# Altium footprint library Others.PcbLib: 19 footprints (part 2 of 2)
Each footprint in its own frame and in the unit in brackets; x right, y up, seen from the top. Pads: shape width x height; smd on the part's side, far side on the other; paste and mask are expansions set on the pad; w line width, h text height; cw(c..) or ccw(c..) is an arc to the next point about the centre after c.
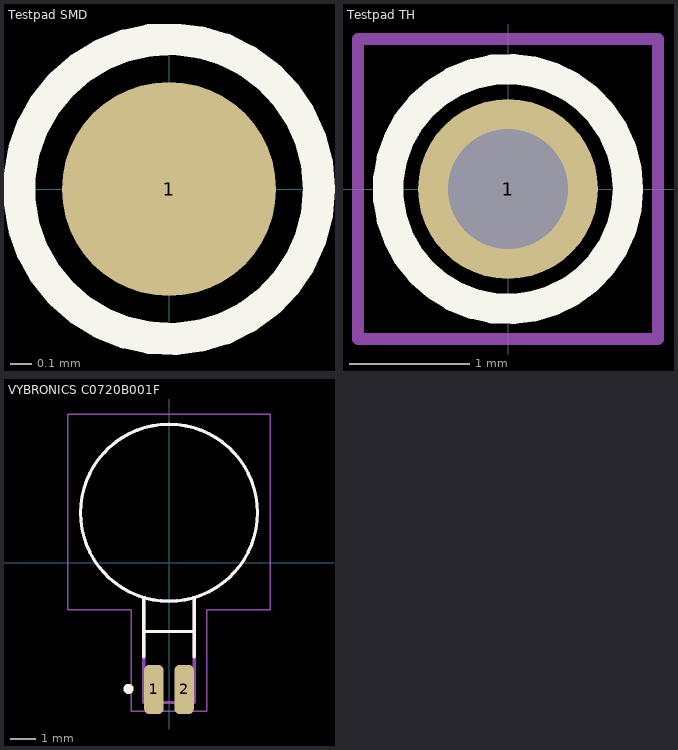
[diagram p1: the footprints below, top view; thin cyan lines are the x and y axes]

## Testpad SMD [mm]
pads (1):
  round 1 smd paste-5: 1(0,0)
Top Overlay:
  circle w0.15: c0,0 r0.7

## Testpad TH [mm]
pads (1):
  round 1.5 hole 1: 1(0,0)
Top Overlay:
  circle w0.254: c0,0 r1
Top Courtyard:
  lines w0.1: -1.25,-1.25 -1.25,1.25 1.25,1.25 1.25,-1.25 -1.25,-1.25

## VYBRONICS C0720B001F [mm] "Vibration Motor"
pads (2):
  rrect50% 0.76x1.94 smd: 1(-0.6,-5.02) 2(0.6,-5.02)
Top Overlay:
  circle w0.2: c-1.6,-5 r0.1
  circle w0.127: c0,1.97 r3.5
  lines w0.127: -1,-3.725 -1,-2.73 ; -1,-1.425 -1,-2.73 ; 1,-3.725 1,-2.73 ; 1,-1.425 1,-2.73 ; -1,-2.73 1,-2.73
Top Component Outline:
  circle w0.127: c0,1.97 r3.5
  lines w0.127: -1,-2.725 1,-2.725 1,-1.425 ; -1,-1.425 -1,-5.53 1,-5.53 1,-2.73
Top Courtyard:
  lines w0.05: -4,-1.875 -4,5.875 4,5.875 4,-1.875 1.5,-1.875 1.5,-5.875 -1.5,-5.875 -1.5,-1.875 -4,-1.875
3D body "VYBRONICS C0720B001F.STEP": height 2.1, standoff 0, extent -3.5,-5.6 3.5,5.4